# Altium footprint library WE-CST.PcbLib: 3 footprints
Each footprint in its own frame and in the unit in brackets; x right, y up, seen from the top. Pads: shape width x height; smd on the part's side, far side on the other; paste and mask are expansions set on the pad; w line width, h text height; cw(c..) or ccw(c..) is an arc to the next point about the centre after c.
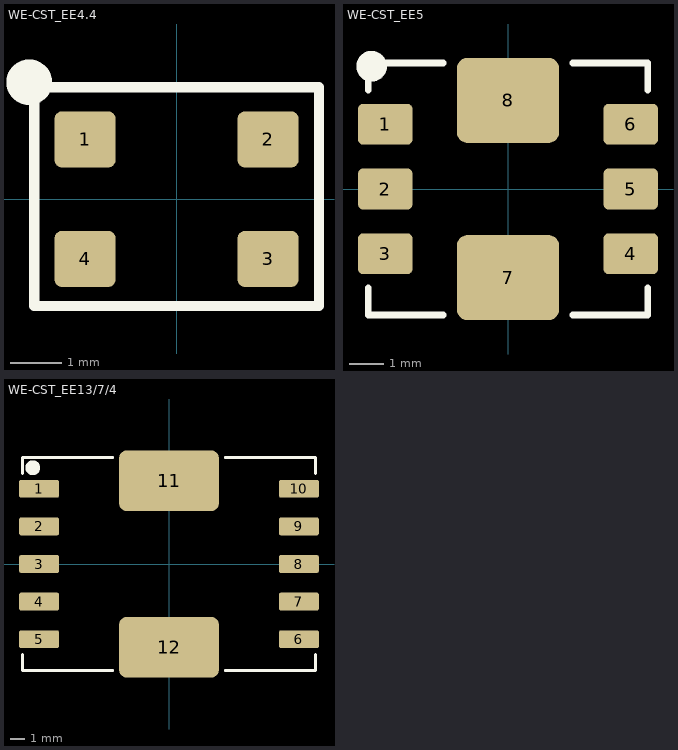
[diagram p0: the footprints below, top view; thin cyan lines are the x and y axes]

## WE-CST_EE4.4 [mm] "Current Sense Transformer, SMT, body 4.7x4.65mm"
height 3.55
pads (4):
  rrect25% 1.2x1.1 smd: 1(-1.8,1.175) 2(1.8,1.175) 3(1.8,-1.175) 4(-1.8,-1.175)
Top Overlay:
  circle w0.5: c-2.9,2.3 r0.2
  lines w0.2: -2.8,-2.1 -2.8,2.2 2.8,2.2 2.8,-2.1 -2.8,-2.1
Top Designator (Mech8):
  text ".Designator" at -4.998,-0.333 h1
3D body "749252xxx.stp": height 3.26, standoff 0, extent -2.1,-1.6 2.1,2.1

## WE-CST_EE5 [mm] "SMD, 6-Leads, Body 7.2x6.0mm (max), Pitch 1.85mm"
height 5.33
pads (8):
  rrect25% 1.6x1.2 smd: 1(-3.6,1.9) 2(-3.6,0) 3(-3.6,-1.9) 4(3.6,-1.9) 5(3.6,0) 6(3.6,1.9)
  rrect25% 3x2.5 smd: 7(0,-2.6) 8(0,2.6)
Top Overlay:
  circle w0.5: c-4,3.6 r0.2
  lines w0.2: -4.1,-2.9 -4.1,-3.7 -1.9,-3.7 ; -4.1,2.9 -4.1,3.7 -1.9,3.7 ; 1.9,-3.7 4.1,-3.7 4.1,-2.9 ; 1.9,3.7 4.1,3.7 4.1,2.9
Top Designator (Mech8):
  text ".Designator" at -4.998,-0.333 h1
3D body "UtCST_749251125.stp": height 5.44, standoff 0.01, extent -3.85,-3.45 3.85,3.45

## WE-CST_EE13/7/4 [mm] "Current Sense Transformer, SMT, body 20.2x14.48mm"
height 10.5
pads (12):
  rrect25% 2.71x1.21 smd: 1(-8.775,5.08) 2(-8.775,2.54) 3(-8.775,0) 4(-8.775,-2.54) 5(-8.775,-5.08) 6(8.775,-5.08) 7(8.775,-2.54) 8(8.775,0) 9(8.775,2.54) 10(8.775,5.08)
  rrect25% 6.74x4.1 smd: 11(0,5.62) 12(0,-5.62)
Top Overlay:
  circle w0.5: c-9.2,6.5 r0.25
  lines w0.2: -9.9,-6.1 -9.9,-7.2 -3.8,-7.2 ; -9.9,6.1 -9.9,7.2 -3.8,7.2 ; 3.8,-7.2 9.9,-7.2 9.9,-6.1 ; 3.8,7.2 9.9,7.2 9.9,6.1
Top Designator (Mech8):
  text ".Designator" at -4.998,-0.333 h1
3D body "749254xxxx.stp": height 9.91, standoff 0, extent -9.6,-6.705 9.6,6.715